# Altium footprint library stm32devpcb.PcbLib: 21 footprints (part 1 of 2)
Each footprint in its own frame and in the unit in brackets; x right, y up, seen from the top. Pads: shape width x height; smd on the part's side, far side on the other; paste and mask are expansions set on the pad; w line width, h text height; cw(c..) or ccw(c..) is an arc to the next point about the centre after c.
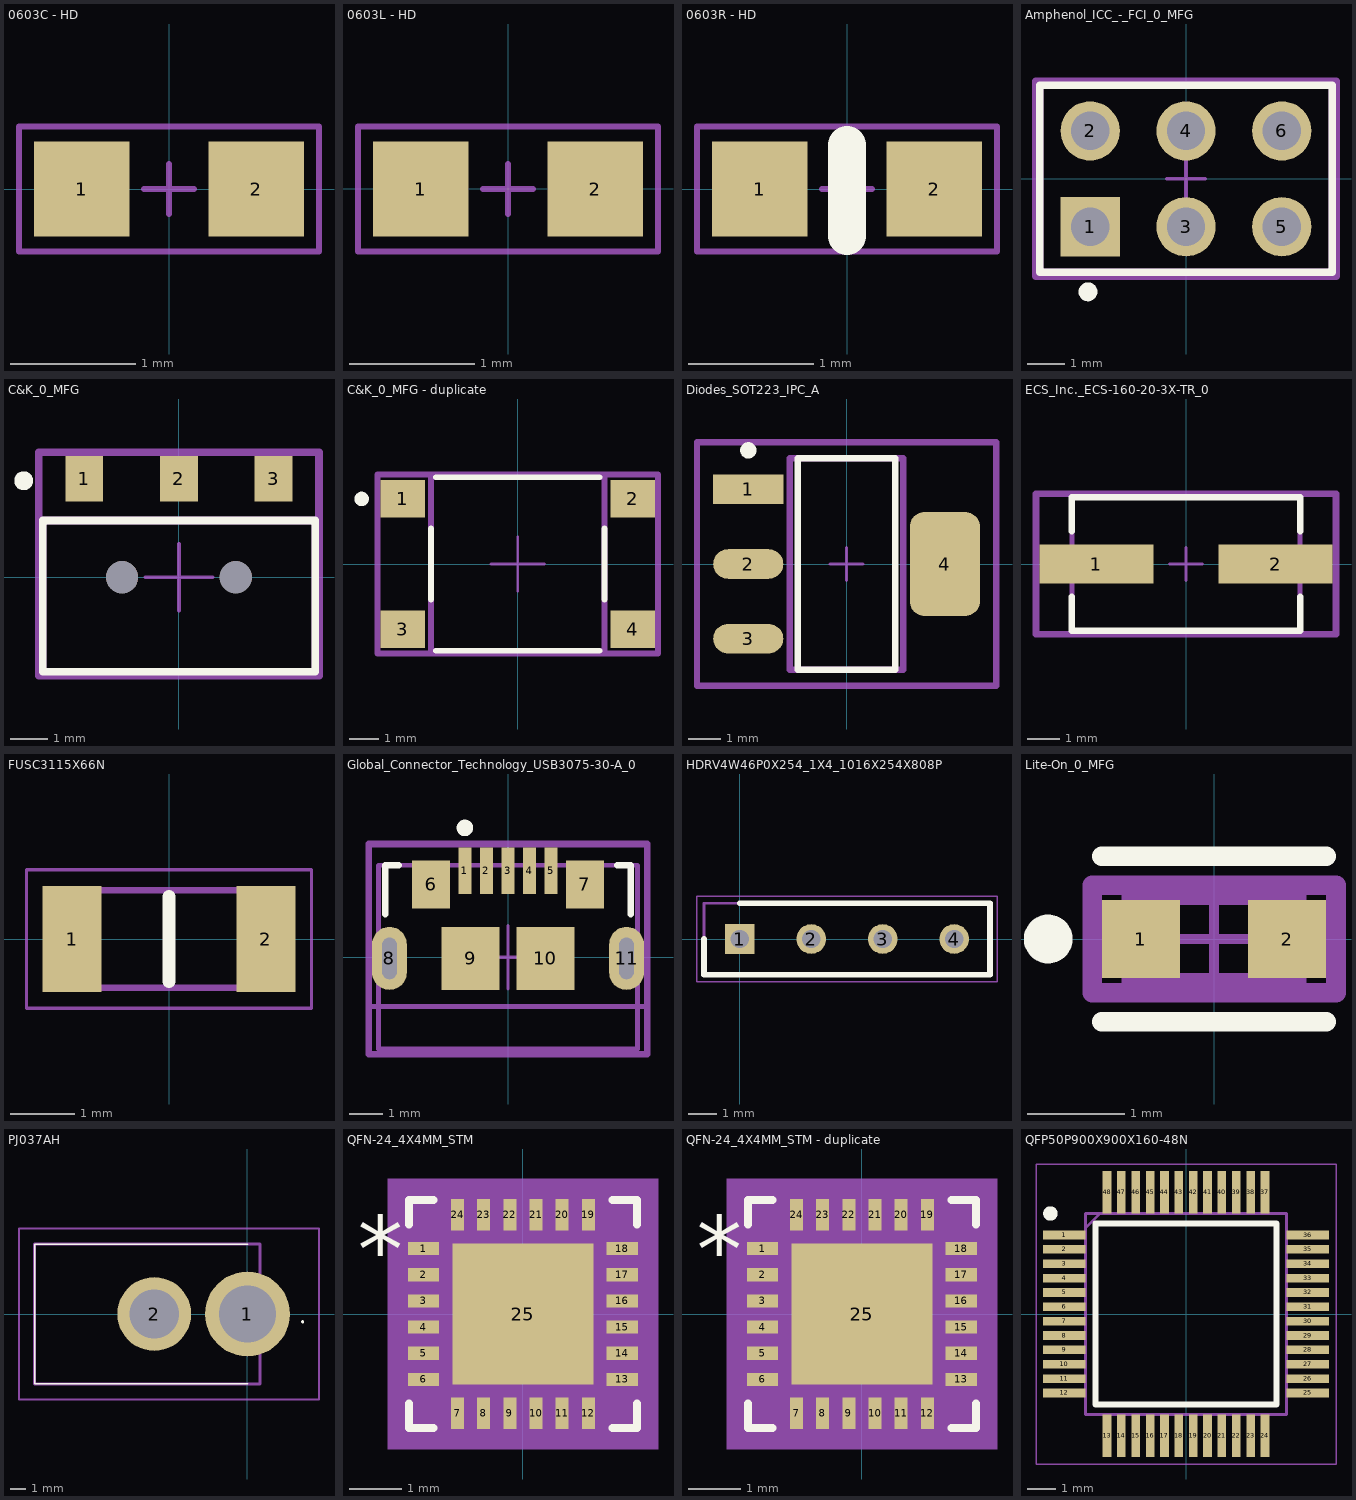
[diagram p0: the footprints below, top view; thin cyan lines are the x and y axes]

## 0603C - HD [mil] "Capacitor 0603 [Imperial]"
height 51.18
pads (2):
  rect 30x30 smd: 1(-27.5,0) 2(27.5,0)
Mechanical 15:
  lines w2: -7.87,0 7.87,0 ; 0,-7.87 0,7.87 ; -47.24,-19.68 47.24,-19.68 47.24,19.68 -47.24,19.68 -47.24,-19.68
3D body "User Library-Chip Capacitor 0603.step": height 31.5, standoff 0, extent -30.51,-16.73 32.48,17.12

## 0603L - HD [mil] "Inductor 0603 [Imperial]"
height 51.18
pads (2):
  rect 30x30 smd: 1(-27.5,0) 2(27.5,0)
Mechanical 15:
  lines w2: -7.87,0 7.87,0 ; 0,-7.87 0,7.87 ; -47.24,-19.69 -47.24,19.68 47.24,19.68 47.24,-19.68 -47.24,-19.69
3D body "User Library-Chip Inductor.step": height 31.5, standoff 0, extent -31.5,-18.7 31.49,18.7

## 0603R - HD [mil]
pads (2):
  rect 30x30 smd: 1(-27.5,0) 2(27.5,0)
Top Overlay:
  lines w12: 0,-14.76 0,13.78
Mechanical 15:
  lines w2: -7.87,0 7.87,0 ; 0,-7.87 0,7.87 ; -47.24,-19.68 47.24,-19.68 47.24,19.68 -47.24,19.68 -47.24,-19.68
3D body "res0603r.STEP": height 17.72, standoff 0, extent -30.99,-15.74 32.01,15.75

## Amphenol_ICC_-_FCI_0_MFG [mm]
pads (6):
  rect 1.57x1.57 hole 1.02 paste-1000 mask+0: 1(-2.54,-1.27)
  round 1.57 hole 1.02 paste-1000 mask+0: 2(-2.54,1.27) 3(0,-1.27) 4(0,1.27) 5(2.54,-1.27) 6(2.54,1.27)
Top Overlay:
  circle w0.25: c-2.6,-2.995 r0.125
  lines w0.2: -3.875,-2.48 -3.875,2.48 3.875,2.48 3.875,-2.48 -3.875,-2.48
Mechanical 10:
  lines w0.2: -3.975,-2.58 -3.975,2.58 3.975,2.58 3.975,-2.58 -3.975,-2.58
Mechanical 12:
  lines w0.2: -3.875,-2.48 -3.875,2.48 3.875,2.48 3.875,-2.48 -3.875,-2.48
Mechanical 15:
  lines w0.1: -0.5,0 0.5,0 ; 0,-0.5 0,0.5
  lines w0.2: -3.975,-2.58 -3.975,2.58 3.975,2.58 3.975,-2.58 -3.975,-2.58
3D body "Conn_Amphenol_ICC_-_FCI_67996-406HLF_eec.STEP": height 0.25, standoff 0, extent -3.975,-2.58 3.975,2.58

## C&K_0_MFG [mm]
pads (5):
  rect 1x1.2 smd paste+0 mask+0: 1(-2.5,2.6) 2(0,2.6) 3(2.5,2.6)
  round 0.85 hole 0.85 unplated paste-1000 mask+0: ""(-1.5,0) ""(1.5,0)
Top Overlay:
  circle w0.25: c-4.1,2.55 r0.125
  lines w0.2: -3.6,-2.5 3.6,-2.5 3.6,1.5 -3.6,1.5 -3.6,-2.5
Mechanical 10:
  lines w0.2: -3.7,-2.6 3.7,-2.6 3.7,3.3 -3.7,3.3 -3.7,-2.6
Mechanical 12:
  lines w0.2: -3.6,-2.5 3.6,-2.5 3.6,1.5 -3.6,1.5 -3.6,-2.5
Mechanical 15:
  lines w0.1: -0.885,0 0.885,0 ; 0,-0.885 0,0.885
  lines w0.2: -3.7,-2.6 3.7,-2.6 3.7,3.3 -3.7,3.3 -3.7,-2.6

## C&K_0_MFG - duplicate [mm]
pads (4):
  rect 1.55x1.3 smd paste+0 mask+0: 1(-3.975,2.25) 2(3.975,2.25) 3(-3.975,-2.25) 4(3.975,-2.25)
Top Overlay:
  circle w0.25: c-5.4,2.25 r0.125
  lines w0.2: -3,-1.225 -3,1.225 ; -2.825,-3 2.825,-3 ; -2.825,3 2.825,3 ; 3,-1.225 3,1.225
Mechanical 10:
  lines w0.2: -4.85,-3.1 -4.85,3.1 4.85,3.1 4.85,-3.1 -4.85,-3.1
Mechanical 12:
  lines w0.2: -3,-3 -3,3 3,3 3,-3 -3,-3
Mechanical 15:
  lines w0.1: -0.93,0 0.93,0 ; 0,-0.93 0,0.93
  lines w0.2: -4.85,-3.1 -4.85,3.1 4.85,3.1 4.85,-3.1 -4.85,-3.1
3D body "Switch_C&K_PTS645SM43SMTR92LFS_eec.STEP": height 0.25, standoff 0, extent -4.85,-3.1 4.85,3.1

## Diodes_SOT223_IPC_A [mm]
pads (4):
  rect 2.16x0.912 smd paste+0 mask+0: 1(-3.026,2.3)
  rrect100% 2.16x0.912 smd paste+0 mask+0: 2(-3.026,0) 3(-3.026,-2.3)
  rrect42% 2.16x3.212 smd paste+0 mask+0: 4(3.026,0)
Top Overlay:
  circle w0.25: c-3.026,3.5 r0.125
  lines w0.2: -1.5,-3.25 1.5,-3.25 1.5,3.25 -1.5,3.25 -1.5,-3.25
Mechanical 10:
  lines w0.2: -4.606,-3.75 4.606,-3.75 4.606,3.75 -4.606,3.75 -4.606,-3.75
Mechanical 12:
  lines w0.2: -1.75,-3.25 1.75,-3.25 1.75,3.25 -1.75,3.25 -1.75,-3.25
Mechanical 15:
  lines w0.1: -0.5,0 0.5,0 ; 0,-0.5 0,0.5
  lines w0.2: -4.606,-3.75 4.606,-3.75 4.606,3.75 -4.606,3.75 -4.606,-3.75
3D body "IC_Diodes_ZLDO1117G33TA_eec.STEP": height 0.25, standoff 0, extent -4.606,-3.75 4.606,3.75

## ECS_Inc._ECS-160-20-3X-TR_0 [mm]
pads (2):
  rect 3.5x1.2 smd paste+0 mask+0: 1(-2.75,0) 2(2.75,0)
Top Overlay:
  lines w0.2: -3.5,-1 -3.5,-2.05 3.5,-2.05 3.5,-1 ; -3.5,1 -3.5,2.05 3.5,2.05 3.5,1
Mechanical 10:
  lines w0.2: -4.6,-2.15 -4.6,2.15 4.6,2.15 4.6,-2.15 -4.6,-2.15
Mechanical 12:
  lines w0.15: -3.5,-2.05 -3.5,2.05 3.5,2.05 3.5,-2.05 -3.5,-2.05
Mechanical 15:
  lines w0.1: -0.5,0 0.5,0 ; 0,-0.5 0,0.5
  lines w0.2: -4.6,-2.15 -4.6,2.15 4.6,2.15 4.6,-2.15 -4.6,-2.15
3D body "3dmodel.step": height 0.25, standoff 0, extent -4.6,-2.15 4.6,2.15

## FUSC3115X66N [mm]
pads (2):
  rect 0.92x1.65 smd: 1(-1.505,0) 2(1.505,0)
Top Overlay:
  lines w0.2: 0,-0.66 0,0.66
Mechanical 13:
  lines w0.1: -1.535,-0.76 -1.535,0.76 1.535,0.76 1.535,-0.76 -1.535,-0.76
Mechanical 15:
  lines w0.05: -2.215,-1.075 -2.215,1.075 2.215,1.075 2.215,-1.075 -2.215,-1.075
3D body "C1Q250.stp": height 0.66, standoff 0, extent -1.535,-0.76 1.535,0.76

## Global_Connector_Technology_USB3075-30-A_0 [mm]
pads (11):
  rect 0.4x1.4 smd paste+0 mask+0: 1(-1.3,2.615) 2(-0.65,2.615) 3(0,2.615) 4(0.65,2.615) 5(1.3,2.615)
  rect 1.15x1.45 smd paste+0 mask+0: 6(-2.32,2.195) 7(2.32,2.195)
  oval 1.05x1.9 hole 1.25 slot 0.45 at 0 deg paste-1000 mask+0: 8(-3.575,-0.035) 11(3.575,-0.035)
  rect 1.75x1.9 smd paste+0 mask+0: 9(-1.125,-0.035) 10(1.125,-0.035)
Top Overlay:
  circle w0.25: c-1.3,3.9 r0.125
  lines w0.2: -3.7,1.3 -3.7,2.775 -3.3,2.775 ; 3.3,2.775 3.7,2.775 3.7,1.3
Mechanical 10:
  lines w0.2: -4.2,-2.925 -4.2,3.415 4.2,3.415 4.2,-2.925 -4.2,-2.925
Mechanical 12:
  lines w0.15: -4.2,-1.485 4.2,-1.485 ; -3.9,-2.775 -3.9,2.775 3.9,2.775 3.9,-2.775 -3.9,-2.775
Mechanical 15:
  lines w0.1: -0.951,0 0.951,0 ; 0,-0.951 0,0.951
  lines w0.2: -4.2,-2.925 -4.2,3.415 4.2,3.415 4.2,-2.925 -4.2,-2.925
3D body "Conn_Global_Connector_Technology_USB3075-30-A_eec.STEP": height 0.25, standoff 0, extent -4.2,-2.925 4.2,3.415

## HDRV4W46P0X254_1X4_1016X254X808P [mm]
pads (4):
  rect 1.05x1.05 hole 0.65: 1(0,0)
  round 1.05 hole 0.65: 2(2.54,0) 3(5.08,0) 4(7.62,0)
Top Overlay:
  lines w0.2: -1.27,0 -1.27,-1.27 8.89,-1.27 8.89,1.27 0,1.27
Mechanical 13:
  lines w0.1: -1.27,-1.27 -1.27,1.27 8.89,1.27 8.89,-1.27 -1.27,-1.27
Mechanical 15:
  lines w0.05: -1.52,-1.52 -1.52,1.52 9.14,1.52 9.14,-1.52 -1.52,-1.52
3D body "TS-104-T-AA.stp": height 8.08, standoff -4.34, extent -1.27,-1.27 8.89,1.27

## Lite-On_0_MFG [mm]
pads (2):
  rect 0.8x0.8 smd paste+0 mask+0: 1(-0.75,0) 2(0.75,0)
Top Overlay:
  circle w0.25: c-1.7,0 r0.125
  lines w0.2: -1.15,-0.85 1.15,-0.85 ; -1.15,0.85 1.15,0.85
Mechanical 10:
  lines w0.2: -1.25,-0.55 -1.25,0.55 1.25,0.55 1.25,-0.55 -1.25,-0.55
Mechanical 12:
  lines w0.2: -0.85,-0.45 -0.85,0.45 0.85,0.45 0.85,-0.45 -0.85,-0.45
Mechanical 15:
  lines w0.1: -0.5,0 0.5,0 ; 0,-0.5 0,0.5
  lines w0.2: -1.25,-0.55 -1.25,0.55 1.25,0.55 1.25,-0.55 -1.25,-0.55
3D body "Diode_Lite-On_LTST-C191KFKT_eec.STEP": height 0.25, standoff 0, extent -1.25,-0.55 1.25,0.55

## PJ037AH [mm]
pads (2):
  round 5.46 hole 3.64: 1(0,0)
  round 4.74 hole 3.16: 2(-6,0)
Top Overlay:
  lines w0.1: 0,-4.5 -13.7,-4.5 -13.7,4.5 0,4.5 ; 3.5,-0.5 cw(c3.55,-0.5) 3.6,-0.5 cw(c3.55,-0.5) 3.5,-0.5
Mechanical 13:
  lines w0.2: -13.7,-4.5 -13.7,4.5 0.8,4.5 0.8,-4.5 -13.7,-4.5
Mechanical 15:
  lines w0.1: -14.7,-5.5 -14.7,5.5 4.6,5.5 4.6,-5.5 -14.7,-5.5
3D body "PJ-037AH.stp": height 11.3, standoff -5, extent -13.7,-4.5 1.72,4.5

## QFN-24_4X4MM_STM [mm]
pads (25):
  rect 0.6x0.25 smd paste+0 mask+0: 1(-1.9,1.25) 2(-1.9,0.75) 3(-1.9,0.25) 4(-1.9,-0.25) 5(-1.9,-0.75) 6(-1.9,-1.25) 13(1.9,-1.25) 14(1.9,-0.75) 15(1.9,-0.25) 16(1.9,0.25) 17(1.9,0.75) 18(1.9,1.25)
  rect 0.25x0.6 smd paste+0 mask+0: 7(-1.25,-1.9) 8(-0.75,-1.9) 9(-0.25,-1.9) 10(0.25,-1.9) 11(0.75,-1.9) 12(1.25,-1.9) 19(1.25,1.9) 20(0.75,1.9) 21(0.25,1.9) 22(-0.25,1.9) 23(-0.75,1.9) 24(-1.25,1.9)
  rect 2.7x2.7 smd paste-1.337 mask+0: 25(0,0)
Top Overlay:
  lines w0.152: -2.177,-1.708 -2.177,-2.177 -1.708,-2.177 ; -2.177,1.708 -2.177,2.177 -1.708,2.177 ; 1.708,-2.177 2.177,-2.177 2.177,-1.708 ; 1.708,2.177 2.177,2.177 2.177,1.708
  text "*" at -3.153,0.615 h1.27
Top Paste:
  region: 1.25,-0.1 0.1,-0.1 0.1,-1.25 1.25,-1.25
  region: 1.25,1.25 0.1,1.25 0.1,0.1 1.25,0.1
  region: -0.1,-0.1 -1.25,-0.1 -1.25,-1.25 -0.1,-1.25
  region: -0.1,1.25 -1.25,1.25 -1.25,0.1 -0.1,0.1
Mechanical 5:
  region: -2.581,2.581 2.581,2.581 2.581,-2.581 -2.581,-2.581
Mechanical 13:
  lines w0.025: -2.05,0.78 -0.78,2.05 ; -2.05,-2.05 -2.05,2.05 2.05,2.05 2.05,-2.05 -2.05,-2.05
  text "*" at -1.282,0.615 h1.27
Mechanical 15:
  region: -1.629,-2.304 -2.304,-2.304 -2.304,-1.629 -2.454,-1.629 -2.454,1.629 -2.304,1.629 -2.304,2.304 -1.629,2.304 -1.629,2.454 1.629,2.454 1.629,2.304 2.304,2.304 2.304,1.629 2.454,1.629 2.454,-1.629 2.304,-1.629 2.304,-2.304 1.629,-2.304 1.629,-2.454 -1.629,-2.454
  lines w0.152: -2.454,-1.629 -2.454,1.629 -2.304,1.629 -2.304,2.304 -1.629,2.304 -1.629,2.454 1.629,2.454 1.629,2.304 2.304,2.304 2.304,1.629 2.454,1.629 2.454,-1.629 2.304,-1.629 2.304,-2.304 1.629,-2.304 1.629,-2.454 -1.629,-2.454 -1.629,-2.304 -2.304,-2.304 -2.304,-1.629 -2.454,-1.629
3D body "QFN-24_4X4MM_STM.step": height 0.75, standoff 0, extent -2.05,-2.05 2.05,2.05

## QFN-24_4X4MM_STM - duplicate [mm]
pads (25):
  rect 0.6x0.25 smd paste+0 mask+0: 1(-1.9,1.25) 2(-1.9,0.75) 3(-1.9,0.25) 4(-1.9,-0.25) 5(-1.9,-0.75) 6(-1.9,-1.25) 13(1.9,-1.25) 14(1.9,-0.75) 15(1.9,-0.25) 16(1.9,0.25) 17(1.9,0.75) 18(1.9,1.25)
  rect 0.25x0.6 smd paste+0 mask+0: 7(-1.25,-1.9) 8(-0.75,-1.9) 9(-0.25,-1.9) 10(0.25,-1.9) 11(0.75,-1.9) 12(1.25,-1.9) 19(1.25,1.9) 20(0.75,1.9) 21(0.25,1.9) 22(-0.25,1.9) 23(-0.75,1.9) 24(-1.25,1.9)
  rect 2.7x2.7 smd paste-1.337 mask+0: 25(0,0)
Top Overlay:
  lines w0.152: -2.177,-1.708 -2.177,-2.177 -1.708,-2.177 ; -2.177,1.708 -2.177,2.177 -1.708,2.177 ; 1.708,-2.177 2.177,-2.177 2.177,-1.708 ; 1.708,2.177 2.177,2.177 2.177,1.708
  text "*" at -3.153,0.615 h1.27
Top Paste:
  region: -0.1,1.25 -1.25,1.25 -1.25,0.1 -0.1,0.1
  region: -0.1,-0.1 -1.25,-0.1 -1.25,-1.25 -0.1,-1.25
  region: 1.25,1.25 0.1,1.25 0.1,0.1 1.25,0.1
  region: 1.25,-0.1 0.1,-0.1 0.1,-1.25 1.25,-1.25
Mechanical 5:
  region: -2.581,2.581 2.581,2.581 2.581,-2.581 -2.581,-2.581
Mechanical 13:
  lines w0.025: -2.05,0.78 -0.78,2.05 ; -2.05,-2.05 2.05,-2.05 2.05,2.05 -2.05,2.05 -2.05,-2.05
  text "*" at -1.282,0.615 h1.27
Mechanical 15:
  region: -1.629,-2.304 -2.304,-2.304 -2.304,-1.629 -2.454,-1.629 -2.454,1.629 -2.304,1.629 -2.304,2.304 -1.629,2.304 -1.629,2.454 1.629,2.454 1.629,2.304 2.304,2.304 2.304,1.629 2.454,1.629 2.454,-1.629 2.304,-1.629 2.304,-2.304 1.629,-2.304 1.629,-2.454 -1.629,-2.454
  lines w0.152: -2.454,-1.629 -2.304,-1.629 -2.304,-2.304 -1.629,-2.304 -1.629,-2.454 1.629,-2.454 1.629,-2.304 2.304,-2.304 2.304,-1.629 2.454,-1.629 2.454,1.629 2.304,1.629 2.304,2.304 1.629,2.304 1.629,2.454 -1.629,2.454 -1.629,2.304 -2.304,2.304 -2.304,1.629 -2.454,1.629 -2.454,-1.629
3D body "QFN-24_4X4MM_STM.step": height 0.75, standoff 0, extent -2.05,-2.05 2.05,2.05

## QFP50P900X900X160-48N [mm]
pads (48):
  rect 1.475x0.3 smd: 1(-4.238,2.75) 2(-4.238,2.25) 3(-4.238,1.75) 4(-4.238,1.25) 5(-4.238,0.75) 6(-4.238,0.25) 7(-4.238,-0.25) 8(-4.238,-0.75) 9(-4.238,-1.25) 10(-4.238,-1.75) 11(-4.238,-2.25) 12(-4.238,-2.75) 25(4.238,-2.75) 26(4.238,-2.25) 27(4.238,-1.75) 28(4.238,-1.25) 29(4.238,-0.75) 30(4.238,-0.25) 31(4.238,0.25) 32(4.238,0.75) 33(4.238,1.25) 34(4.238,1.75) 35(4.238,2.25) 36(4.238,2.75)
  rect 0.3x1.475 smd: 13(-2.75,-4.238) 14(-2.25,-4.238) 15(-1.75,-4.238) 16(-1.25,-4.238) 17(-0.75,-4.238) 18(-0.25,-4.238) 19(0.25,-4.238) 20(0.75,-4.238) 21(1.25,-4.238) 22(1.75,-4.238) 23(2.25,-4.238) 24(2.75,-4.238) 37(2.75,4.238) 38(2.25,4.238) 39(1.75,4.238) 40(1.25,4.238) 41(0.75,4.238) 42(0.25,4.238) 43(-0.25,4.238) 44(-0.75,4.238) 45(-1.25,4.238) 46(-1.75,4.238) 47(-2.25,4.238) 48(-2.75,4.238)
Top Overlay:
  circle w0.25: c-4.725,3.5 r0.125
  lines w0.2: -3.15,-3.15 3.15,-3.15 3.15,3.15 -3.15,3.15 -3.15,-3.15
Mechanical 13:
  lines w0.1: -3.5,3 -3,3.5 ; -3.5,-3.5 3.5,-3.5 3.5,3.5 -3.5,3.5 -3.5,-3.5
Mechanical 15:
  lines w0.05: -5.225,-5.225 5.225,-5.225 5.225,5.225 -5.225,5.225 -5.225,-5.225
3D body "STM32L151C8T6A.stp": height 1.6, standoff 0, extent -4.5,-4.5 4.5,4.5